# EAGLE library part FK141R-254-9P (library BottleSumo Library v104)
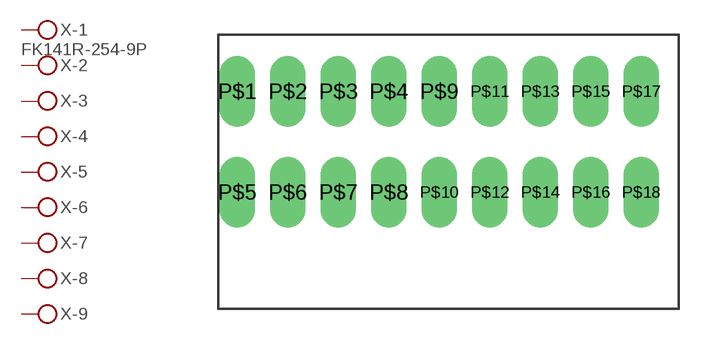
[diagram p11: symbol with the pads of KF141R-254-9P; footprint KF141R-254-9P]

Designator prefix X; gates -1=KLV-1 -2=KL-2 -3=KL-2 -4=KL-2 -5=KL-2 -6=KL-2 -7=KL-2 -8=KL-2 -9=KL-2

## FK141R-254-9P  [KF141R-254-9P]
P$1  -1:KL  pas
P$2  -2:KL  pas
P$3  -3:KL  pas
P$4  -4:KL  pas
P$5  -1:KL  pas
P$6  -2:KL  pas
P$7  -3:KL  pas
P$8  -4:KL  pas
P$9  -5:KL  pas
P$10  -5:KL  pas
P$11  -6:KL  pas
P$12  -6:KL  pas
P$13  -7:KL  pas
P$14  -7:KL  pas
P$15  -8:KL  pas
P$16  -8:KL  pas
P$17  -9:KL  pas
P$18  -9:KL  pas

## Footprint KF141R-254-9P (pad centres in mm)
drill 1 pad 1.778 long: P$1 0,0; P$2 2.54,0; P$3 5.08,0; P$4 7.62,0; P$5 0,-5.08; P$6 2.54,-5.08; P$7 5.08,-5.08; P$8 7.62,-5.08; P$9 10.16,0; P$10 10.16,-5.08; P$11 12.7,0; P$12 12.7,-5.08; P$13 15.24,0; P$14 15.24,-5.08; P$15 17.78,0; P$16 17.78,-5.08; P$17 20.32,0; P$18 20.32,-5.08